# EAGLE library part NRF51822 (library chips_old)
Multiprotocol Bluetooth® 4.0 low energy/2.4 GHz RF SoC
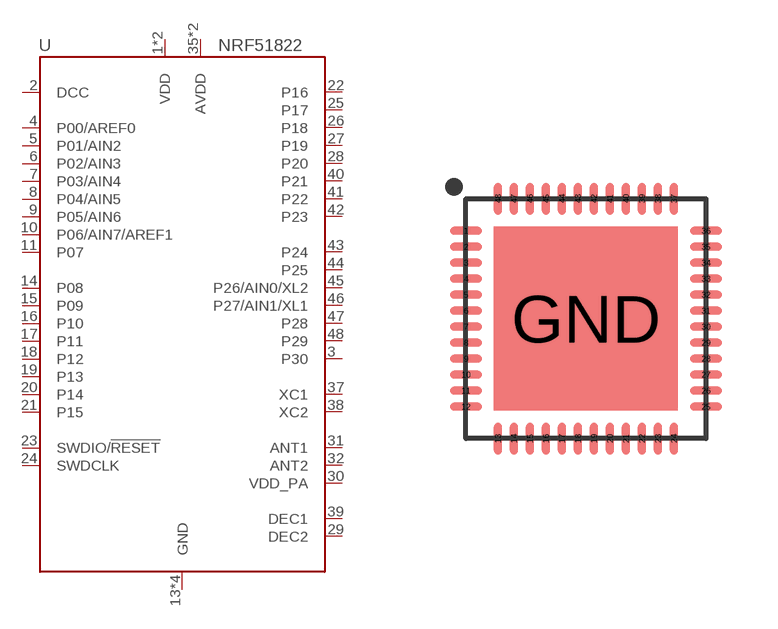
[diagram p16: symbol with the pads of QFN-48-6MM; footprint QFN-48-6MM]

Designator prefix U

## NRF51822QF (DIGIKEY: 1490-1049-1-ND; MANUFACTURER: Nordic Semi; MOUSER: 949-NRF51822-QFAC-R7; MPN: NRF51822-QFAC-R7)  [QFN-48-6MM]
1  VDD
2  DCC
3  P30
4  P00/AREF0
5  P01/AIN2
6  P02/AIN3
7  P03/AIN4
8  P04/AIN5
9  P05/AIN6
10  P06/AIN7/AREF1
11  P07
12  VDD
13  GND
14  P08
15  P09
16  P10
17  P11
18  P12
19  P13
20  P14
21  P15
22  P16
23  SWDIO/!RESET
24  SWDCLK
25  P17
26  P18
27  P19
28  P20
29  DEC2
30  VDD_PA
31  ANT1
32  ANT2
33  GND
34  GND
35  AVDD
36  AVDD
37  XC1
38  XC2
39  DEC1
40  P21
41  P22
42  P23
43  P24
44  P25
45  P26/AIN0/XL2
46  P27/AIN1/XL1
47  P28
48  P29
GND  GND

## Footprint QFN-48-6MM (pad centres in mm)
6MM x 6MM 48QFN package
smd 0.8 x 0.203: 1 -3,2.2; 2 -3,1.8; 3 -3,1.4; 4 -3,1; 5 -3,0.6; 6 -3,0.2; 7 -3,-0.2; 8 -3,-0.6; 9 -3,-1; 10 -3,-1.4; 11 -3,-1.8; 12 -3,-2.2; 25 3,-2.2; 26 3,-1.8; 27 3,-1.4; 28 3,-1; 29 3,-0.6; 30 3,-0.2; 31 3,0.2; 32 3,0.6; 33 3,1; 34 3,1.4; 35 3,1.8; 36 3,2.2
smd 0.203 x 0.8: 13 -2.2,-3; 14 -1.8,-3; 15 -1.4,-3; 16 -1,-3; 17 -0.6,-3; 18 -0.2,-3; 19 0.2,-3; 20 0.6,-3; 21 1,-3; 22 1.4,-3; 23 1.8,-3; 24 2.2,-3; 37 2.2,3; 38 1.8,3; 39 1.4,3; 40 1,3; 41 0.6,3; 42 0.2,3; 43 -0.2,3; 44 -0.6,3; 45 -1,3; 46 -1.4,3; 47 -1.8,3; 48 -2.2,3
smd 4.6 x 4.6: GND 0,0